# EAGLE library part 524X_S (library switch-apem)
2PDT PUSHBUTTON SWITCH
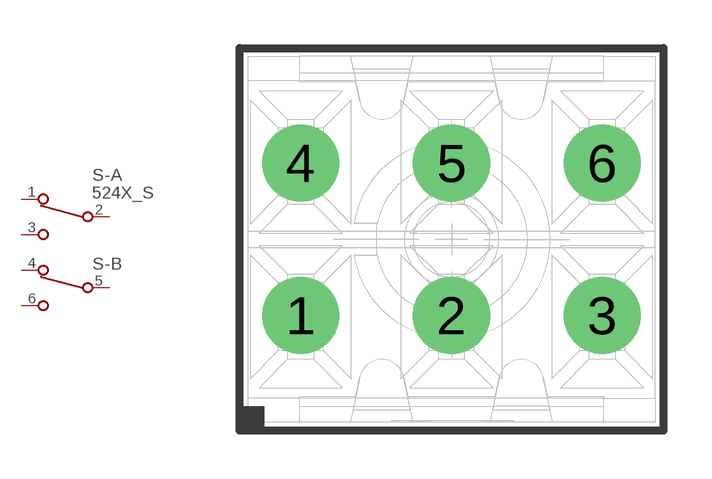
[diagram p1: symbol with the pads of 524X; footprint 524X]

Designator prefix S; gates -A=1PDT-NV -B=1PDT-N

## 524X_S  [524X]
1  -A:A-NC  pas
2  -A:A-COM  pas
3  -A:A-NO  pas
4  -B:A-NC  pas
5  -B:A-COM  pas
6  -B:A-NO  pas

## Footprint 524X (pad centres in mm)
drill 1.6: 1 -4.699,-2.375; 2 0,-2.375; 3 4.699,-2.375; 4 -4.699,2.375; 5 0,2.375; 6 4.699,2.375